# EAGLE library part TEENSY3.1 (library Nick'sEagle)
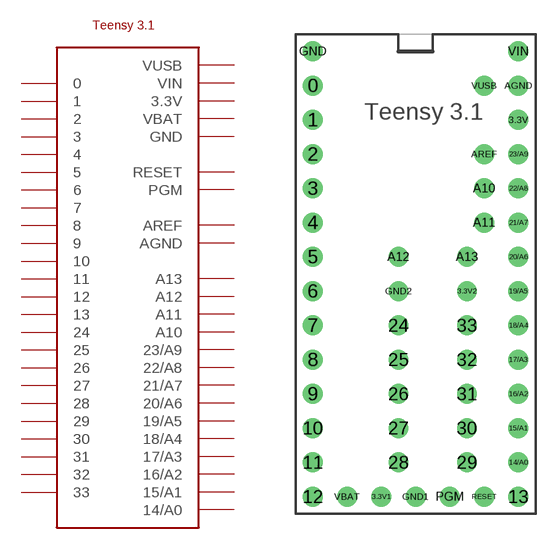
[diagram p0: symbol with the pads of TEENSY3.1; footprint TEENSY3.1]

Designator prefix -

## TEENSY3.1  [TEENSY3.1]
0  0
1  1
2  2
3  3
3.3V  3.3V  pwr
4  4
5  5
6  6
7  7
8  8
9  9
10  10
11  11
12  12
13  13
14/A0  14/A0
15/A1  15/A1
16/A2  16/A2
17/A3  17/A3
18/A4  18/A4
19/A5  19/A5
20/A6  20/A6
21/A7  21/A7
22/A8  22/A8
23/A9  23/A9
24  24
25  25
26  26
27  27
28  28
29  29
30  30
31  31
32  32
33  33
A10  A10
A11  A11
A12  A12
A13  A13
AGND  AGND  pwr
AREF  AREF  pwr
GND  GND  pwr
PGM  PGM
RESET  RESET
VBAT  VBAT  pwr
VIN  VIN  pwr
VUSB  VUSB  pwr

## Footprint TEENSY3.1 (pad centres in mm)
drill 0.965: 0 -6.35,15.24; 1 -6.35,12.7; 2 -6.35,10.16; 3 -6.35,7.62; 3.3V 8.89,12.7; 3.3V1 -1.27,-15.24; 3.3V2 5.08,0; 4 -6.35,5.08; 5 -6.35,2.54; 6 -6.35,0; 7 -6.35,-2.54; 8 -6.35,-5.08; 9 -6.35,-7.62; 10 -6.35,-10.16; 11 -6.35,-12.7; 12 -6.35,-15.24; 13 8.89,-15.24; 14/A0 8.89,-12.7; 15/A1 8.89,-10.16; 16/A2 8.89,-7.62; 17/A3 8.89,-5.08; 18/A4 8.89,-2.54; 19/A5 8.89,0; 20/A6 8.89,2.54; 21/A7 8.89,5.08; 22/A8 8.89,7.62; 23/A9 8.89,10.16; 24 0,-2.54; 25 0,-5.08; 26 0,-7.62; 27 0,-10.16; 28 0,-12.7; 29 5.08,-12.7; 30 5.08,-10.16; 31 5.08,-7.62; 32 5.08,-5.08; 33 5.08,-2.54; A10 6.35,7.62; A11 6.35,5.08; A12 0,2.54; A13 5.08,2.54; AGND 8.89,15.24; AREF 6.35,10.16; GND -6.35,17.78; GND1 1.27,-15.24; GND2 0,0; PGM 3.81,-15.24; RESET 6.35,-15.24; VBAT -3.81,-15.24; VIN 8.89,17.78; VUSB 6.35,15.24